# Altium footprint library cb_v1.PcbLib: 11 footprints
Each footprint in its own frame and in the unit in brackets; x right, y up, seen from the top. Pads: shape width x height; smd on the part's side, far side on the other; paste and mask are expansions set on the pad; w line width, h text height; cw(c..) or ccw(c..) is an arc to the next point about the centre after c.
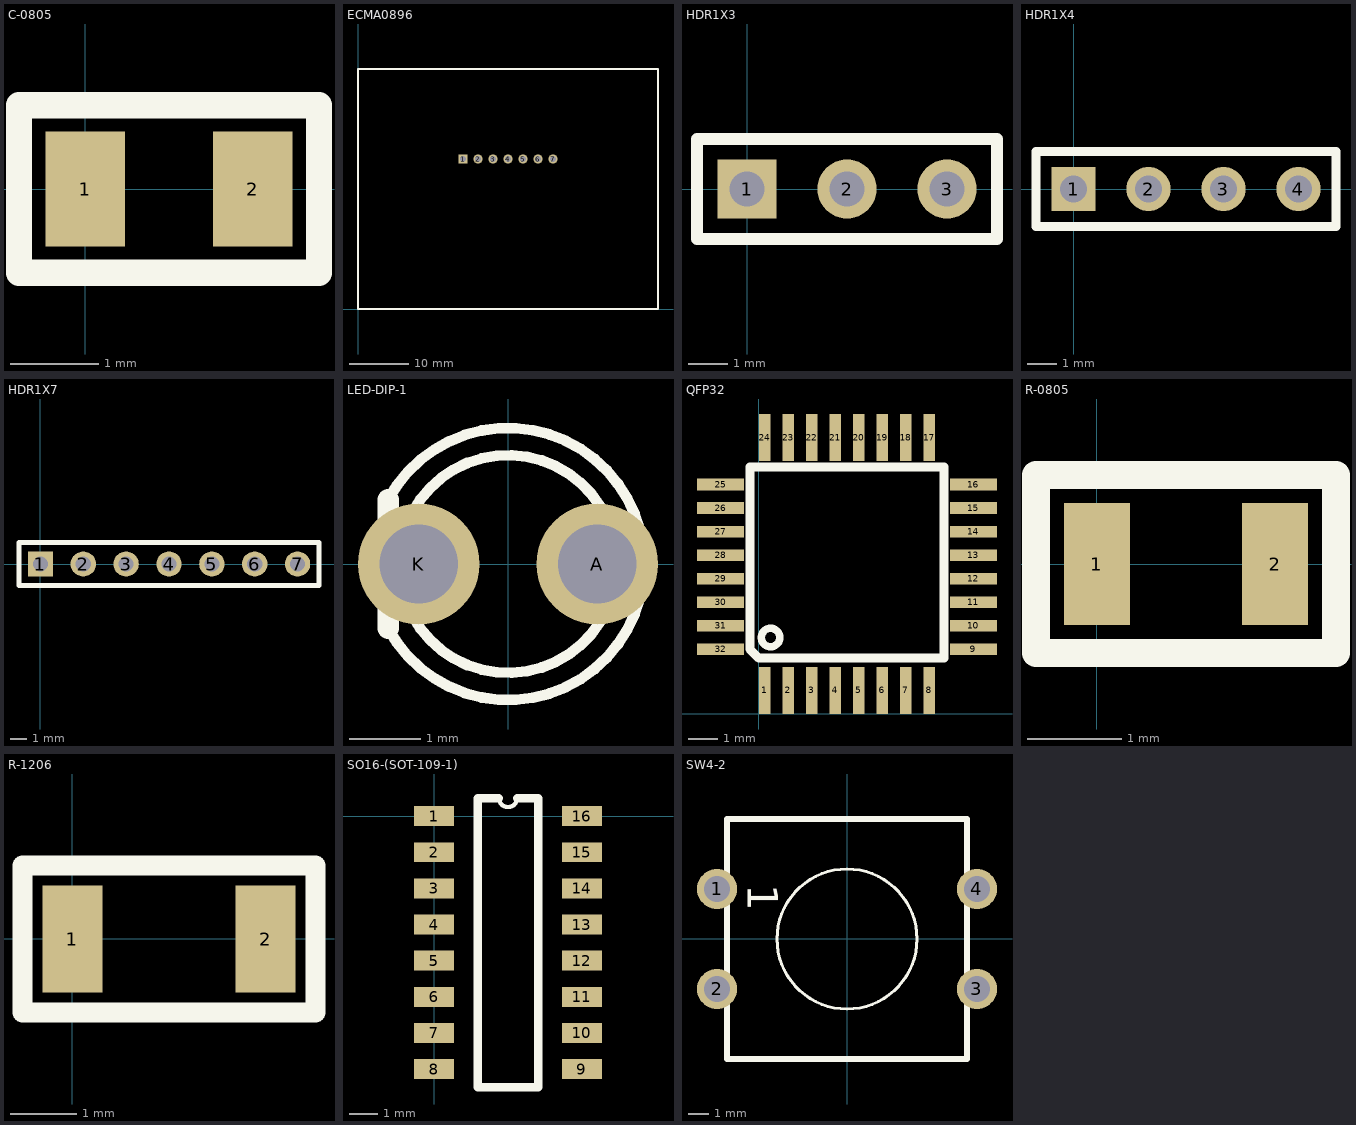
[diagram p0: the footprints below, top view; thin cyan lines are the x and y axes]

## C-0805 [mm]
pads (2):
  rect 0.9x1.3 smd: 1(0,0) 2(1.9,0)
Top Overlay:
  lines w0.3: -0.75,-0.95 -0.75,0 -0.75,0.95 2.65,0.95 2.65,-0.95 -0.75,-0.95

## ECMA0896 [mil]
pads (7):
  rect 60x60 hole 40: 1(700,1000)
  round 60 hole 40: 2(800,1000) 3(900,1000) 4(1000,1000) 5(1100,1000) 6(1200,1000) 7(1300,1000)
Top Overlay:
  lines w11.81: 0,0 0,1600 2000,1600 2000,0 0,0 ; 0,0 780,0 0,0

## HDR1X3 [mm] "Connector; Header; 3 Position"
pads (3):
  rect 1.5x1.5 hole 0.9: 1(0,0)
  round 1.5 hole 0.9: 2(2.54,0) 3(5.08,0)
Top Overlay:
  lines w0.3: -1.27,-1.27 6.35,-1.27 6.35,1.27 -1.27,1.27 -1.27,-1.27

## HDR1X4 [mm] "Connector; Header; 4 Position"
pads (4):
  rect 1.5x1.5 hole 0.9: 1(0,0)
  round 1.5 hole 0.9: 2(2.54,0) 3(5.08,0) 4(7.62,0)
Top Overlay:
  lines w0.3: -1.27,-1.27 -1.27,1.27 8.89,1.27 8.89,-1.27 -1.27,-1.27

## HDR1X7 [mm] "Connector; Header; 7 Position"
pads (7):
  rect 1.5x1.5 hole 0.9: 1(0,0)
  round 1.5 hole 0.9: 2(2.54,0) 3(5.08,0) 4(7.62,0) 5(10.16,0) 6(12.7,0) 7(15.24,0)
Top Overlay:
  lines w0.3: -1.27,-1.27 -1.27,1.27 16.51,1.27 16.51,-1.27 -1.27,-1.27

## LED-DIP-1 [mm]
pads (2):
  round 1.7 hole 1.1: A(1.25,0) K(-1.25,0)
Top Overlay:
  circle w0.15: c0,0 r1.524
  lines w0.15: -1.678,-0.902 ccw(c0,0) -1.678,0.902
  lines w0.3: -1.678,-0.902 -1.678,0.902

## QFP32 [mm]
pads (32):
  rect 0.4x1.6 smd: 1(0.2,0.8) 2(1,0.8) 3(1.8,0.8) 4(2.6,0.8) 5(3.4,0.8) 6(4.2,0.8) 7(5,0.8) 8(5.8,0.8) 17(5.8,9.4) 18(5,9.4) 19(4.2,9.4) 20(3.4,9.4) 21(2.6,9.4) 22(1.8,9.4) 23(1,9.4) 24(0.2,9.4)
  rect 1.6x0.4 smd: 9(7.3,2.2) 10(7.3,3) 11(7.3,3.8) 12(7.3,4.6) 13(7.3,5.4) 14(7.3,6.2) 15(7.3,7) 16(7.3,7.8) 25(-1.3,7.8) 26(-1.3,7) 27(-1.3,6.2) 28(-1.3,5.4) 29(-1.3,4.6) 30(-1.3,3.8) 31(-1.3,3) 32(-1.3,2.2)
Top Overlay:
  circle w0.254: c0.4,2.6 r0.316
  lines w0.3: -0.3,2.2 -0.3,2.2 ; -0.3,2.2 0,1.9 6.3,1.9 6.3,8.4 -0.3,8.4 -0.3,2.2

## R-0805 [mm]
pads (2):
  rect 0.7x1.3 smd: 1(0,0) 2(1.9,0)
Top Overlay:
  lines w0.3: -0.65,-0.95 2.55,-0.95 2.55,0.95 -0.65,0.95 -0.65,0 -0.65,-0.95

## R-1206 [mm]
pads (2):
  rect 0.9x1.6 smd: 1(0,0) 2(2.9,0)
Top Overlay:
  lines w0.3: -0.75,-1.1 3.65,-1.1 3.65,1.1 -0.75,1.1 -0.75,0 -0.75,-1.1

## SO16-(SOT-109-1) [mm]
pads (16):
  rect 1.4x0.7 smd: 1(0,0) 2(0,-1.27) 3(0,-2.54) 4(0,-3.81) 5(0,-5.08) 6(0,-6.35) 7(0,-7.62) 8(0,-8.89) 9(5.2,-8.89) 10(5.2,-7.62) 11(5.2,-6.35) 12(5.2,-5.08) 13(5.2,-3.81) 14(5.2,-2.54) 15(5.2,-1.27) 16(5.2,0)
Top Overlay:
  lines w0.15: 2.282,0.635 ccw(c2.6,0.635) 2.917,0.635
  lines w0.3: 2.282,0.635 1.535,0.635 1.535,-9.525 3.665,-9.525 3.665,0.635 2.918,0.635

## SW4-2 [mm]
pads (4):
  round 2 hole 1.3: 1(-6.5,2.5) 2(-6.5,-2.5) 3(6.5,-2.5) 4(6.5,2.5)
Top Overlay:
  circle w0.15: c0,0 r3.5
  lines w0.3: -6,-6 6,-6 6,6 -6,6 -6,-6
  text "1" at -4.95,2.74 h1.52